# EAGLE library part TMS320C5515AZCH12 (library DSPs)
IC DSP FIXED-POINT 196NFBGA Manufacturer's datasheet <http://www.ti.com/lit/ds/symlink/tms320c5515.pdf>
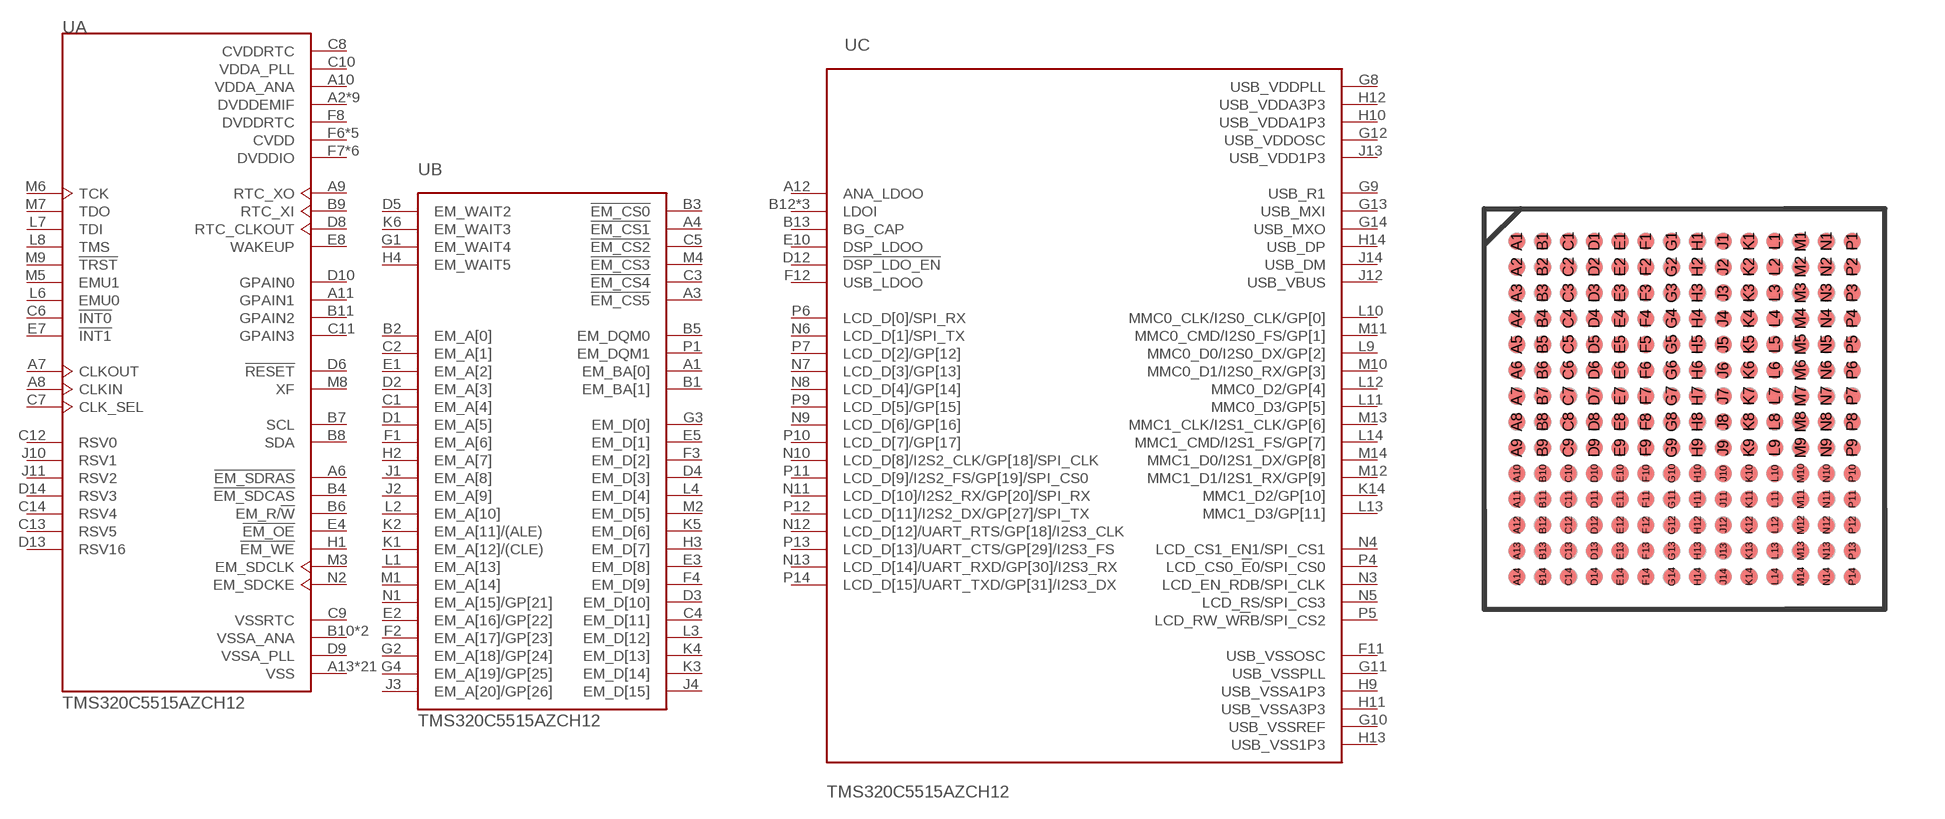
[diagram p9: symbol with the pads of BGA196; footprint BGA196]

Designator prefix U; gates A=TMS320C5515AZCH12-A B=TMS320C5515AZCH12-B C=TMS320C5515AZCH12-C

## TMS320C5515AZCH12 (CREATED_BY: PCBLayout.com; DIGIKEY_PARTNO: 296-27199-5-ND; MANUFACTURER: Texas Instruments; MPN: TMS320C5515AZCH12; PACKAGE: NFBGA-196)  [BGA196]
A1  B:EM_BA[0]  out
A2  A:DVDDEMIF  pwr
A3  B:!EM_CS5  out
A4  B:!EM_CS1  out
A5  A:DVDDEMIF  pwr
A6  A:!EM_SDRAS  out
A7  A:CLKOUT  out
A8  A:CLKIN  in
A9  A:RTC_XO  out
A10  A:VDDA_ANA  pwr
A11  A:GPAIN1
A12  C:ANA_LDOO  out
A13  A:VSS  pwr
A14  A:VSS  pwr
B1  B:EM_BA[1]  out
B2  B:EM_A[0]
B3  B:!EM_CS0  out
B4  A:!EM_SDCAS  out
B5  B:EM_DQM0  out
B6  A:EM_R/!W!  out
B7  A:SCL
B8  A:SDA
B9  A:RTC_XI  in
B10  A:VSSA_ANA  pwr
B11  A:GPAIN2
B12  C:LDOI  in
B13  C:BG_CAP
B14  A:VSSA_ANA  pwr
C1  B:EM_A[4]
C2  B:EM_A[1]
C3  B:!EM_CS4  out
C4  B:EM_D[11]
C5  B:!EM_CS2  out
C6  A:!INT0  in
C7  A:CLK_SEL  in
C8  A:CVDDRTC  pwr
C9  A:VSSRTC  pwr
C10  A:VDDA_PLL  pwr
C11  A:GPAIN3
C12  A:RSV0  in
C13  A:RSV5  in
C14  A:RSV4  in
D1  B:EM_A[5]
D2  B:EM_A[3]
D3  B:EM_D[10]
D4  B:EM_D[3]
D5  B:EM_WAIT2  in
D6  A:!RESET  in
D7  A:VSS  pwr
D8  A:RTC_CLKOUT  out
D9  A:VSSA_PLL  pwr
D10  A:GPAIN0
D11  A:VSS  pwr
D12  C:!DSP_LDO_EN  in
D13  A:RSV16  in
D14  A:RSV3  in
E1  B:EM_A[2]
E2  B:EM_A[16]/GP[22]
E3  B:EM_D[8]
E4  A:!EM_OE  out
E5  B:EM_D[1]
E6  A:DVDDEMIF  pwr
E7  A:!INT1  in
E8  A:WAKEUP
E9  A:VSS  pwr
E10  C:DSP_LDOO  out
E11  A:VSS  pwr
E12  A:VSS  pwr
E13  A:VSS  pwr
E14  A:VSS  pwr
F1  B:EM_A[6]
F2  B:EM_A[17]/GP[23]
F3  B:EM_D[2]
F4  B:EM_D[9]
F5  A:DVDDEMIF  pwr
F6  A:CVDD  pwr
F7  A:DVDDIO  pwr
F8  A:DVDDRTC  pwr
F9  A:VSS  pwr
F10  A:VSS  pwr
F11  C:USB_VSSOSC  pwr
F12  C:USB_LDOO  out
F13  C:LDOI  in
F14  C:LDOI  in
G1  B:EM_WAIT4  in
G2  B:EM_A[18]/GP[24]
G3  B:EM_D[0]
G4  B:EM_A[19]/GP[25]
G5  A:DVDDEMIF  pwr
G6  A:VSS  pwr
G7  A:VSS  pwr
G8  C:USB_VDDPLL  pwr
G9  C:USB_R1
G10  C:USB_VSSREF  pwr
G11  C:USB_VSSPLL  pwr
G12  C:USB_VDDOSC  pwr
G13  C:USB_MXI  in
G14  C:USB_MXO  out
H1  A:!EM_WE  out
H2  B:EM_A[7]
H3  B:EM_D[7]
H4  B:EM_WAIT5  in
H5  A:DVDDEMIF  pwr
H6  A:VSS  pwr
H7  A:DVDDEMIF  pwr
H8  A:CVDD  pwr
H9  C:USB_VSSA1P3  pwr
H10  C:USB_VDDA1P3  pwr
H11  C:USB_VSSA3P3  pwr
H12  C:USB_VDDA3P3  pwr
H13  C:USB_VSS1P3  pwr
H14  C:USB_DP
J1  B:EM_A[8]
J2  B:EM_A[9]
J3  B:EM_A[20]/GP[26]
J4  B:EM_D[15]
J5  A:DVDDEMIF  pwr
J6  A:CVDD  pwr
J7  A:VSS  pwr
J8  A:VSS  pwr
J9  A:VSS  pwr
J10  A:RSV1  pwr
J11  A:RSV2  pwr
J12  C:USB_VBUS
J13  C:USB_VDD1P3  pwr
J14  C:USB_DM
K1  B:EM_A[12]/(CLE)
K2  B:EM_A[11]/(ALE)
K3  B:EM_D[14]
K4  B:EM_D[13]
K5  B:EM_D[6]
K6  B:EM_WAIT3  in
K7  A:DVDDIO  pwr
K8  A:VSS  pwr
K9  A:VSS  pwr
K10  A:CVDD  pwr
K11  A:VSS  pwr
K12  A:DVDDIO  pwr
K13  A:VSS  pwr
K14  C:MMC1_D2/GP[10]
L1  B:EM_A[13]
L2  B:EM_A[10]
L3  B:EM_D[12]
L4  B:EM_D[4]
L5  A:CVDD  pwr
L6  A:EMU0
L7  A:TDI  in
L8  A:TMS  in
L9  C:MMC0_D0/I2S0_DX/GP[2]
L10  C:MMC0_CLK/I2S0_CLK/GP[0]
L11  C:MMC0_D3/GP[5]
L12  C:MMC0_D2/GP[4]
L13  C:MMC1_D3/GP[11]
L14  C:MMC1_CMD/I2S1_FS/GP[7]
M1  B:EM_A[14]
M2  B:EM_D[5]
M3  A:EM_SDCLK  out
M4  B:!EM_CS3  out
M5  A:EMU1
M6  A:TCK  in
M7  A:TDO  out
M8  A:XF  out
M9  A:!TRST  in
M10  C:MMC0_D1/I2S0_RX/GP[3]
M11  C:MMC0_CMD/I2S0_FS/GP[1]
M12  C:MMC1_D1/I2S1_RX/GP[9]
M13  C:MMC1_CLK/I2S1_CLK/GP[6]
M14  C:MMC1_D0/I2S1_DX/GP[8]
N1  B:EM_A[15]/GP[21]
N2  A:EM_SDCKE  out
N3  C:LCD_EN_RDB/SPI_CLK
N4  C:LCD_CS1_EN1/SPI_CS1
N5  C:LCD_RS/SPI_CS3
N6  C:LCD_D[1]/SPI_TX
N7  C:LCD_D[3]/GP[13]
N8  C:LCD_D[4]/GP[14]
N9  C:LCD_D[6]/GP[16]
N10  C:LCD_D[8]/I2S2_CLK/GP[18]/SPI_CLK
N11  C:LCD_D[10]/I2S2_RX/GP[20]/SPI_RX
N12  C:LCD_D[12]/UART_RTS/GP[18]/I2S3_CLK
N13  C:LCD_D[14]/UART_RXD/GP[30]/I2S3_RX
N14  A:DVDDIO  pwr
P1  B:EM_DQM1  out
P2  A:DVDDEMIF  pwr
P3  A:DVDDIO  pwr
P4  C:LCD_CS0_!E!0/SPI_CS0
P5  C:LCD_RW_W!R!B/SPI_CS2
P6  C:LCD_D[0]/SPI_RX
P7  C:LCD_D[2]/GP[12]
P8  A:DVDDIO  pwr
P9  C:LCD_D[5]/GP[15]
P10  C:LCD_D[7]/GP[17]
P11  C:LCD_D[9]/I2S2_FS/GP[19]/SPI_CS0
P12  C:LCD_D[11]/I2S2_DX/GP[27]/SPI_TX
P13  C:LCD_D[13]/UART_CTS/GP[29]/I2S3_FS
P14  C:LCD_D[15]/UART_TXD/GP[31]/I2S3_DX

## Footprint BGA196 (pad centres in mm)
Ball Grid Array (BGA), 0.65 mm pitch, square; 196 pin, 10.00 mm L X 10.00 mm W X 1.30 mm H body PCB Libraries Packages
smd 0.41 x 0.41: A1 -4.225,4.225; A2 -4.225,3.575; A3 -4.225,2.925; A4 -4.225,2.275; A5 -4.225,1.625; A6 -4.225,0.975; A7 -4.225,0.325; A8 -4.225,-0.325; A9 -4.225,-0.975; A10 -4.225,-1.625; A11 -4.225,-2.275; A12 -4.225,-2.925; A13 -4.225,-3.575; A14 -4.225,-4.225; B1 -3.575,4.225; B2 -3.575,3.575; B3 -3.575,2.925; B4 -3.575,2.275; B5 -3.575,1.625; B6 -3.575,0.975; B7 -3.575,0.325; B8 -3.575,-0.325; B9 -3.575,-0.975; B10 -3.575,-1.625; B11 -3.575,-2.275; B12 -3.575,-2.925; B13 -3.575,-3.575; B14 -3.575,-4.225; C1 -2.925,4.225; C2 -2.925,3.575; C3 -2.925,2.925; C4 -2.925,2.275; C5 -2.925,1.625; C6 -2.925,0.975; C7 -2.925,0.325; C8 -2.925,-0.325; C9 -2.925,-0.975; C10 -2.925,-1.625; C11 -2.925,-2.275; C12 -2.925,-2.925; C13 -2.925,-3.575; C14 -2.925,-4.225; D1 -2.275,4.225; D2 -2.275,3.575; D3 -2.275,2.925; D4 -2.275,2.275; D5 -2.275,1.625; D6 -2.275,0.975; D7 -2.275,0.325; D8 -2.275,-0.325; D9 -2.275,-0.975; D10 -2.275,-1.625; D11 -2.275,-2.275; D12 -2.275,-2.925; D13 -2.275,-3.575; D14 -2.275,-4.225; E1 -1.625,4.225; E2 -1.625,3.575; E3 -1.625,2.925; E4 -1.625,2.275; E5 -1.625,1.625; E6 -1.625,0.975; E7 -1.625,0.325; E8 -1.625,-0.325; E9 -1.625,-0.975; E10 -1.625,-1.625; E11 -1.625,-2.275; E12 -1.625,-2.925; E13 -1.625,-3.575; E14 -1.625,-4.225; F1 -0.975,4.225; F2 -0.975,3.575; F3 -0.975,2.925; F4 -0.975,2.275; F5 -0.975,1.625; F6 -0.975,0.975; F7 -0.975,0.325; F8 -0.975,-0.325; F9 -0.975,-0.975; F10 -0.975,-1.625; F11 -0.975,-2.275; F12 -0.975,-2.925; F13 -0.975,-3.575; F14 -0.975,-4.225; G1 -0.325,4.225; G2 -0.325,3.575; G3 -0.325,2.925; G4 -0.325,2.275; G5 -0.325,1.625; G6 -0.325,0.975; G7 -0.325,0.325; G8 -0.325,-0.325; G9 -0.325,-0.975; G10 -0.325,-1.625; G11 -0.325,-2.275; G12 -0.325,-2.925; G13 -0.325,-3.575; G14 -0.325,-4.225; H1 0.325,4.225; H2 0.325,3.575; H3 0.325,2.925; H4 0.325,2.275; H5 0.325,1.625; H6 0.325,0.975; H7 0.325,0.325; H8 0.325,-0.325; H9 0.325,-0.975; H10 0.325,-1.625; H11 0.325,-2.275; H12 0.325,-2.925; H13 0.325,-3.575; H14 0.325,-4.225; J1 0.975,4.225; J2 0.975,3.575; J3 0.975,2.925; J4 0.975,2.275; J5 0.975,1.625; J6 0.975,0.975; J7 0.975,0.325; J8 0.975,-0.325; J9 0.975,-0.975; J10 0.975,-1.625; J11 0.975,-2.275; J12 0.975,-2.925; J13 0.975,-3.575; J14 0.975,-4.225; K1 1.625,4.225; K2 1.625,3.575; K3 1.625,2.925; K4 1.625,2.275; K5 1.625,1.625; K6 1.625,0.975; K7 1.625,0.325; K8 1.625,-0.325; K9 1.625,-0.975; K10 1.625,-1.625; K11 1.625,-2.275; K12 1.625,-2.925; K13 1.625,-3.575; K14 1.625,-4.225; L1 2.275,4.225; L2 2.275,3.575; L3 2.275,2.925; L4 2.275,2.275; L5 2.275,1.625; L6 2.275,0.975; L7 2.275,0.325; L8 2.275,-0.325; L9 2.275,-0.975; L10 2.275,-1.625; L11 2.275,-2.275; L12 2.275,-2.925; L13 2.275,-3.575; L14 2.275,-4.225; M1 2.925,4.225; M2 2.925,3.575; M3 2.925,2.925; M4 2.925,2.275; M5 2.925,1.625; M6 2.925,0.975; M7 2.925,0.325; M8 2.925,-0.325; M9 2.925,-0.975; M10 2.925,-1.625; M11 2.925,-2.275; M12 2.925,-2.925; M13 2.925,-3.575; M14 2.925,-4.225; N1 3.575,4.225; N2 3.575,3.575; N3 3.575,2.925; N4 3.575,2.275; N5 3.575,1.625; N6 3.575,0.975; N7 3.575,0.325; N8 3.575,-0.325; N9 3.575,-0.975; N10 3.575,-1.625; N11 3.575,-2.275; N12 3.575,-2.925; N13 3.575,-3.575; N14 3.575,-4.225; P1 4.225,4.225; P2 4.225,3.575; P3 4.225,2.925; P4 4.225,2.275; P5 4.225,1.625; P6 4.225,0.975; P7 4.225,0.325; P8 4.225,-0.325; P9 4.225,-0.975; P10 4.225,-1.625; P11 4.225,-2.275; P12 4.225,-2.925; P13 4.225,-3.575; P14 4.225,-4.225